# Altium schematic symbol library SCH - CONNECTORS - SAMTEC - TSW-105-07-G-D.SCHLIB: 1 symbol
Pins are listed as number, name and electrical type; pins without a type are passive.

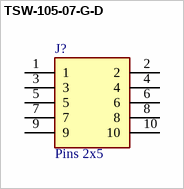
[diagram p0: symbol TSW-105-07-G-D]

## TSW-105-07-G-D
designator J?, comment Pins 2x5
Connector; Manufacturer_Name: SAMTEC; Manufacturer_Part_Number: TSW-105-07-G-D; Datasheet Link: http://suddendocs.samtec.com/catalog_english/tsw_th.pdf; Height: 8.38mm; Mouser Part Number: 200-TSW10507GD; Mouser Price/Stock: https://www.mouser.com/Search/Refine.aspx?Keyword=200-TSW10507GD; RS Part Number: 1612489; RS Price/Stock: http://uk.rs-online.com/web/p/products/1612489
footprint HDRV10W64P254_2X5_1270X495X838P
pins: 1, 2, 3, 4, 5, 6, 7, 8, 9, 10